# EAGLE library part PGA112 (library Zoli2_2015-01-28)
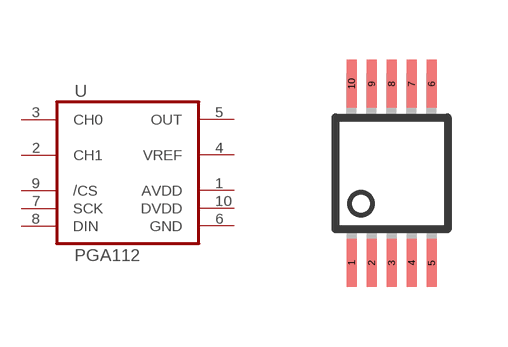
[diagram p52: symbol with the pads of MSOP10; footprint MSOP10]

Designator prefix -

## PGA112AIDGS  [MSOP10]
1  AVDD  pwr
2  CH1  in
3  CH0  in
4  VREF  in
5  OUT  out
6  GND  pwr
7  SCK  in
8  DIN  in
9  /CS  in
10  DVDD  pwr

## Footprint MSOP10 (pad centres in mm)
10-Lead Mini Small Outline Package [MSOP] (RM-10) Source: http://www.analog.com/UploadedFiles/Data_Sheets/35641221898805SSM2167_b.pdf COMPLIANT TO JEDEC STANDARDS MO-187BA
smd 0.25 x 1.2: 1 -1,-2.24; 2 -0.5,-2.24; 3 0,-2.24; 4 0.5,-2.24; 5 1,-2.24; 6 1,2.24; 7 0.5,2.24; 8 0,2.24; 9 -0.5,2.24; 10 -1,2.24